# Altium footprint library Footprint.PcbLib: 1 footprints
Each footprint in its own frame and in the unit in brackets; x right, y up, seen from the top. Pads: shape width x height; smd on the part's side, far side on the other; paste and mask are expansions set on the pad; w line width, h text height; cw(c..) or ccw(c..) is an arc to the next point about the centre after c.
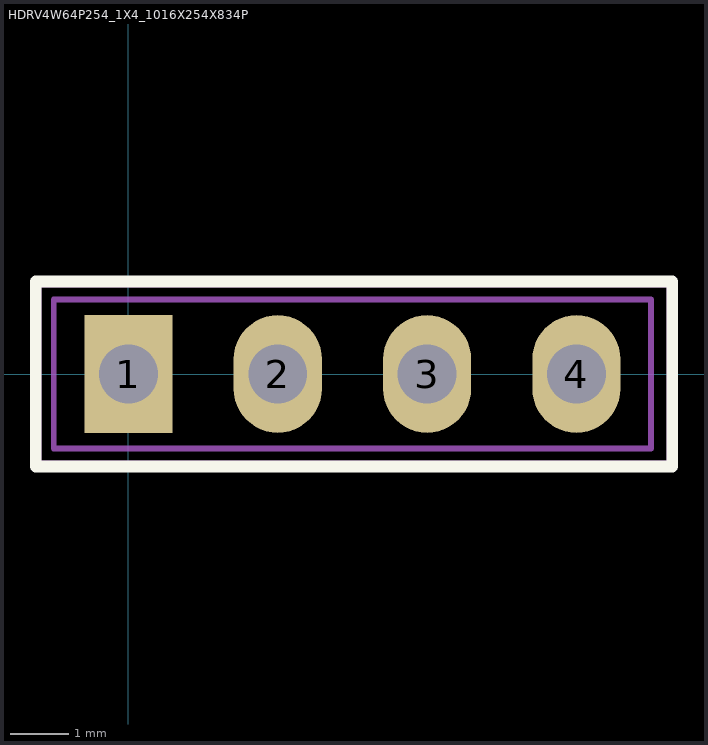
[diagram p0: the footprint, top view; thin cyan lines are the x and y axes]

## HDRV4W64P254_1X4_1016X254X834P [mm] "Connector, 4-Leads, Body 10.16x2.54mm, IPC Medium Density"
height 8.34
pads (4):
  rect 1.5x2 hole 1: 1(0,0)
  oval 1.5x2 hole 1: 2(2.54,0) 3(5.08,0) 4(7.62,0)
Top Overlay:
  lines w0.2: -1.575,-1.575 -1.575,1.575 9.25,1.575 9.25,-1.575 -1.575,-1.575
Top Pattern:
  lines w0.1: -1.27,-1.27 -1.27,1.27 8.89,1.27 8.89,-1.27 -1.27,-1.27 ; -0.254,-0.254 -0.254,0.254 0.254,0.254 0.254,-0.254 -0.254,-0.254 ; 2.286,-0.254 2.286,0.254 2.794,0.254 2.794,-0.254 2.286,-0.254 ; 4.826,-0.254 4.826,0.254 5.334,0.254 5.334,-0.254 4.826,-0.254 ; 7.366,-0.254 7.366,0.254 7.874,0.254 7.874,-0.254 7.366,-0.254
  text ".Designator" at -1.675,2.075 h1.52
Courtyard:
  lines w0.1: -1.525,-1.524 -1.525,1.525 9.2,1.525 9.2,-1.524 -1.525,-1.524
3D body "M20-9770346-4.step": height 8.34, standoff -3.1, extent -1.27,-1.27 8.89,1.27